# Altium footprint library Led.PcbLib: 8 footprints
Each footprint in its own frame and in the unit in brackets; x right, y up, seen from the top. Pads: shape width x height; smd on the part's side, far side on the other; paste and mask are expansions set on the pad; w line width, h text height; cw(c..) or ccw(c..) is an arc to the next point about the centre after c.
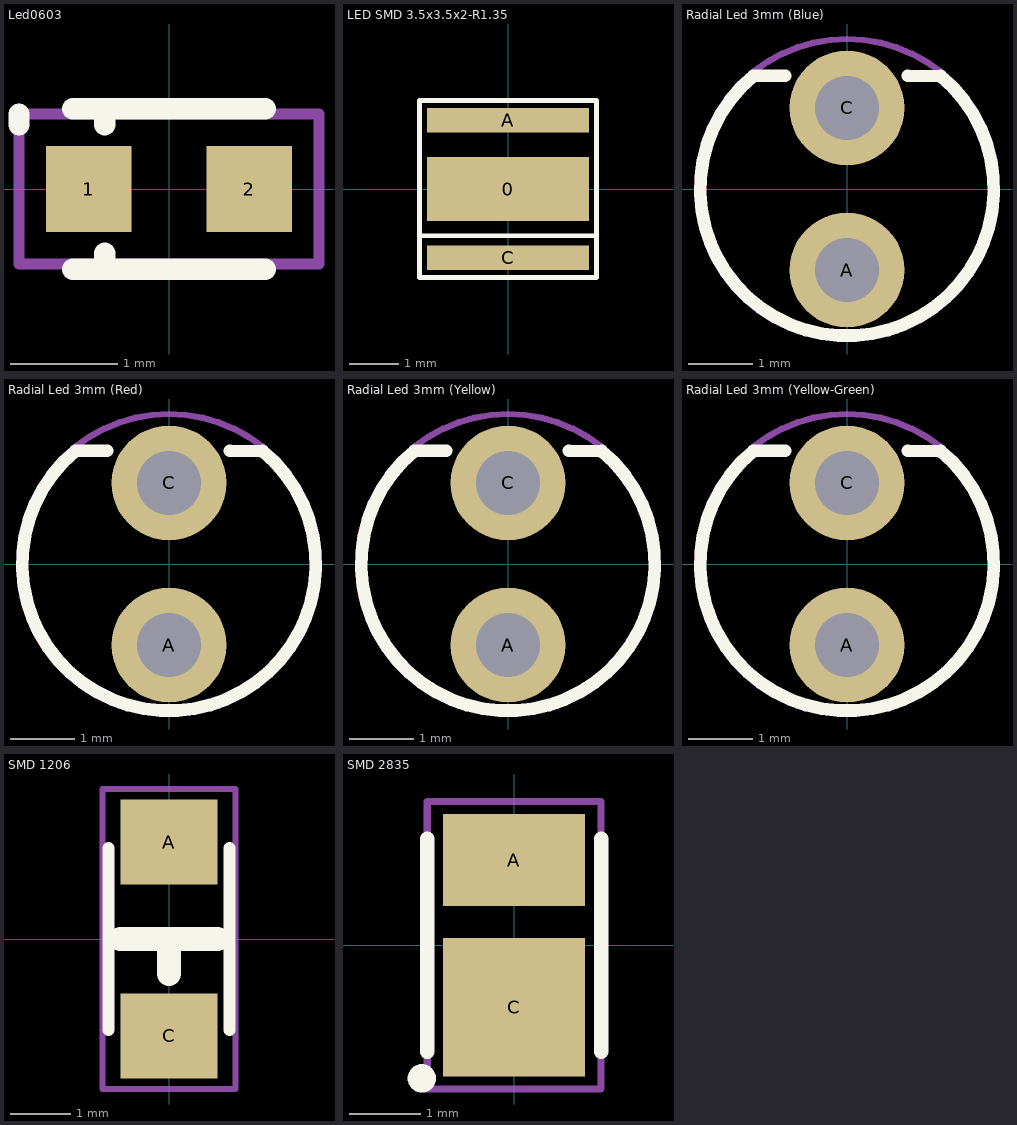
[diagram p0: the footprints below, top view; thin cyan lines are the x and y axes]

## Led0603 [mm]
pads (2):
  rect 0.8x0.8 smd: 1(-0.75,0) 2(0.75,0)
Top Overlay:
  lines w0.2: -1.4,0.6 -1.4,0.7 ; -0.9,-0.75 0.9,-0.75 ; -0.9,0.75 0.9,0.75 ; -0.6,-0.75 -0.6,-0.6 ; -0.6,0.6 -0.6,0.75
Border:
  lines w0.1: -1.4,-0.7 1.4,-0.7 1.4,0.7 -1.4,0.7 -1.4,-0.7
3D body "User Library-LED_0603_G.STEP": height 0.6, standoff 0, extent -0.8,-0.4 0.8,0.4

## LED SMD 3.5x3.5x2-R1.35 [mm]
pads (3):
  rect 3.3x1.3 smd: 0(0,0)
  rect 3.3x0.5 smd: A(0,1.4) C(0,-1.4)
Top Overlay:
  lines w0.1: -1.8,-0.95 1.8,-0.95 ; -1.8,-1.8 1.8,-1.8 1.8,1.8 -1.8,1.8 -1.8,-1.8
3D body "LED SMD 3.5x3.5x2-R1.35.stp": height 2.03, standoff 0.03, extent -1.75,-1.75 1.75,1.75

## Radial Led 3mm (Blue) [mm]
pads (2):
  round 1.8 hole 1 mask+0.05: A(0,-1.27) C(0,1.27)
Top Overlay:
  lines w0.2: -0.97,1.776 -1.47,1.769 ccw(c0,0) 1.47,1.769 ; 0.95,1.775 1.45,1.768
Border:
  circle w0.1: c0,0 r2.35
3D body "Светодиод синий d=3.stp": height 6.3, standoff -6, extent -1.948,-1.95 1.949,1.53

## Radial Led 3mm (Red) [mm]
pads (2):
  round 1.8 hole 1 mask+0.05: A(0,-1.27) C(0,1.27)
Top Overlay:
  lines w0.2: -0.97,1.776 -1.47,1.769 ccw(c0,0) 1.47,1.769 ; 0.95,1.775 1.45,1.768
Border:
  circle w0.1: c0,0 r2.35
3D body "Светодиод красный d=3.stp": height 6.3, standoff -6, extent -1.948,-1.95 1.949,1.53

## Radial Led 3mm (Yellow) [mm]
pads (2):
  round 1.8 hole 1 mask+0.05: A(0,-1.27) C(0,1.27)
Top Overlay:
  lines w0.2: -0.97,1.776 -1.47,1.769 ccw(c0,0) 1.47,1.769 ; 0.95,1.775 1.45,1.768
Border:
  circle w0.1: c0,0 r2.35
3D body "Светодиод желтый d=3.stp": height 6.3, standoff -6, extent -1.948,-1.95 1.949,1.53

## Radial Led 3mm (Yellow-Green) [mm]
pads (2):
  round 1.8 hole 1 mask+0.05: A(0,-1.27) C(0,1.27)
Top Overlay:
  lines w0.2: -0.97,1.776 -1.47,1.769 ccw(c0,0) 1.47,1.769 ; 0.95,1.775 1.45,1.768
Border:
  circle w0.1: c0,0 r2.35
3D body "Светодиод зеленый d=3.stp": height 6.3, standoff -6, extent -1.948,-1.95 1.949,1.53

## SMD 1206 [mm]
pads (2):
  rect 1.6x1.4 smd: A(0,1.6) C(0,-1.6)
Top Overlay:
  lines w0.2: -1,-1.5 -1,1.5 ; 1,-1.5 1,1.5
  lines w0.4: -0.8,0 0.8,0 ; 0,-0.575 0,0
Border:
  lines w0.1: -1.1,-2.475 -1.1,2.475 1.1,2.475 1.1,-2.475 -1.1,-2.475
3D body "User Library-FYLS-1206.sldprt": height 1.15, standoff 0.05, extent -0.8,-1.652 0.8,1.548

## SMD 2835 [mm]
pads (2):
  rect 2x1.3 smd: A(0,1.2)
  rect 2x1.95 smd: C(0,-0.875)
Top Overlay:
  circle w0.2: c-1.3,-1.875 r0.1
  lines w0.2: -1.225,-1.5 -1.225,1.5 ; 1.225,-1.5 1.225,1.5
Border:
  lines w0.1: -1.225,-2.025 -1.225,2.025 1.225,2.025 1.225,-2.025 -1.225,-2.025
3D body "User Library-SMD2835.STEP": height 0.7, standoff -0.02, extent -1.4,-1.78 1.4,1.785